# Altium integrated library TI_Logic_Specialty_Logic.IntLib: 2504 symbols (part 61 of 81)
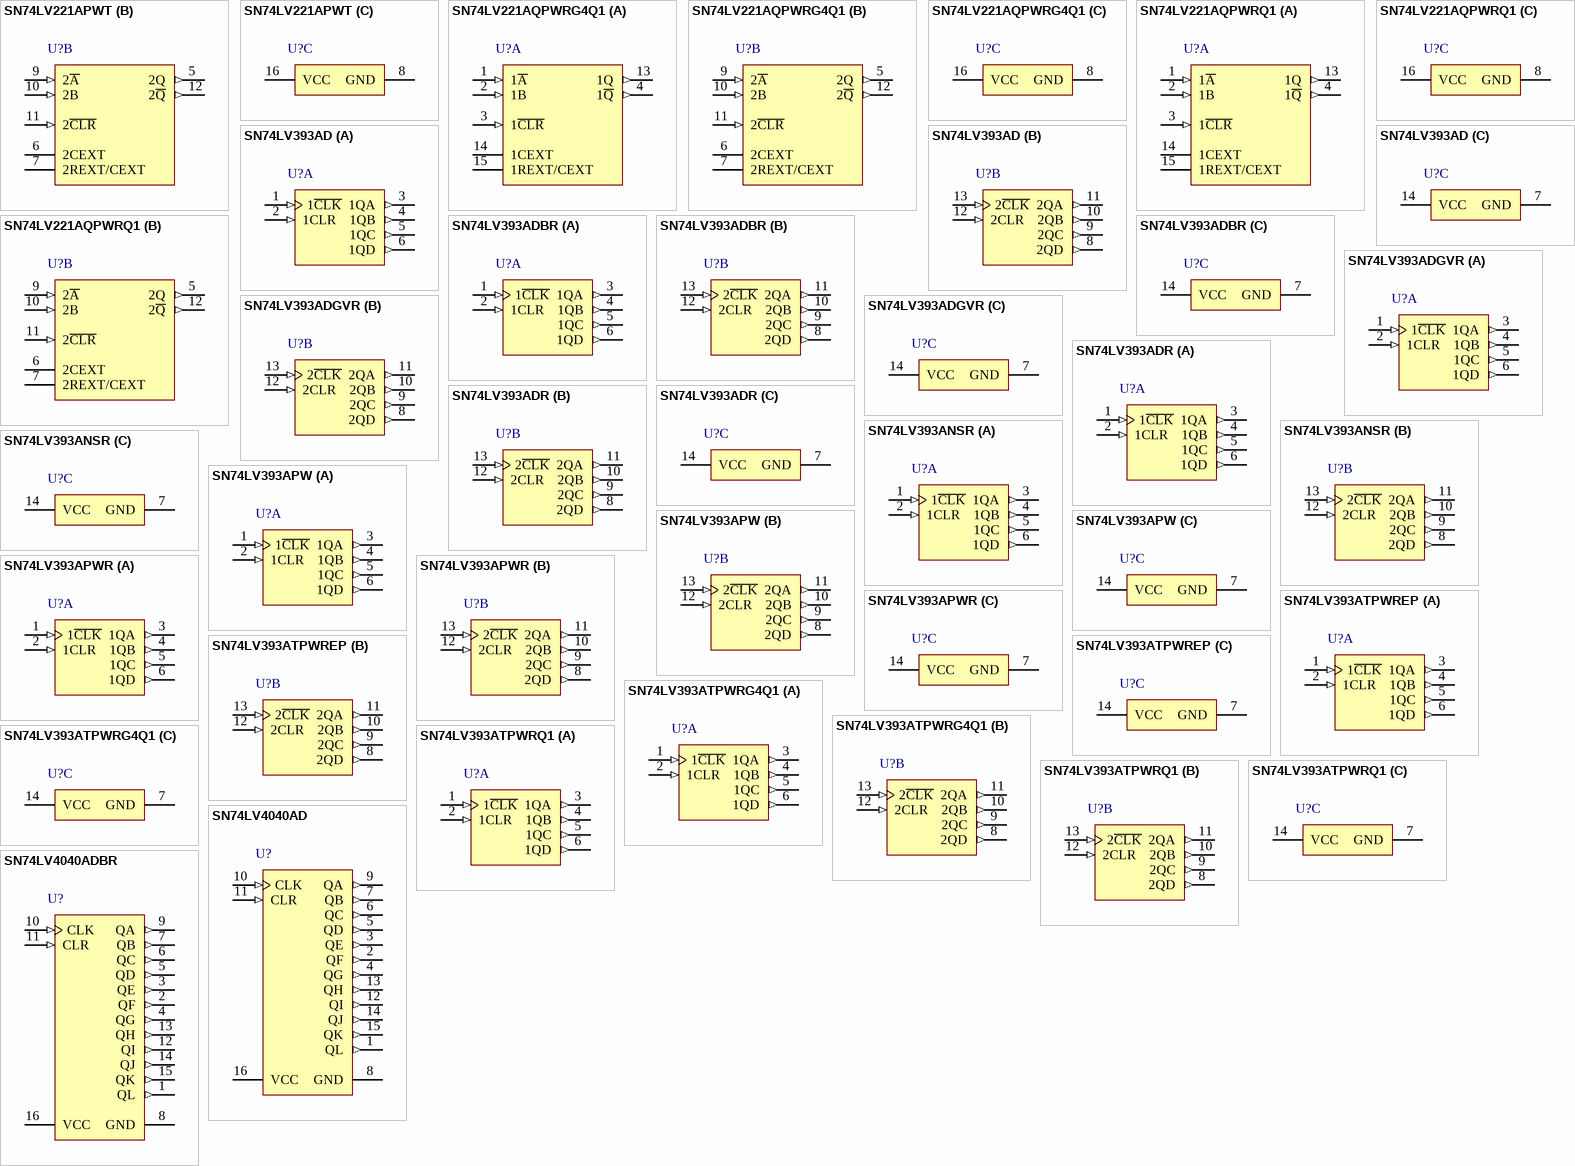
[diagram p164: symbols SN74LV221APWT to SN74LV4040ADBR]

## SN74LV393ATPWREP
designator U?
Enhanced Product Dual 4-Bit Binary Counters, PW0014A, LARGE T&R; Generic Part Number: SN74LV393A-EP; Manufacturer: Texas Instruments; PartNumber: SN74LV393ATPWREP; VCC(Min)(V): 2; VCC(Max)(V): 5.5; Inputs: 1; ICC @ Nom Voltage(Max)(mA): 0.02; Bits(#): 4; F @ Nom Voltage(Max)(Mhz): 70; Rating: HiRel Enhanced Product; Technology Family: LV-A; Output Drive (IOL/IOH)(Max)(mA): 12/-12; tpd @ Nom Voltage(Max)(ns): 16.5; DatasheetVersion: SCLS566A; PackageReference: PW0014A; Supplier 1: Mouser; Supplier Part Number 1: 595-SN74LV393ATPWREP; Supplier 2: Digi-Key; Supplier Part Number 2: 296-22313-2-ND; Supplier 3: Digi-Key; Supplier Part Number 3: 296-22313-1-ND; Supplier 4: Digi-Key; Supplier Part Number 4: 296-22313-6-ND; Function: Counter; Operating Temperature Range(C): -40 to 105; Type: Binary; Code_JEDEC: MO-153; ComponentLink1Description: Manufacturer URL; ComponentLink1URL: http://www.ti.com/; ComponentLink2Description: Datasheet; ComponentLink2URL: http://www.ti.com/lit/ds/symlink/sn74lv393a-ep.pdf; ComponentLink3Description: Package Specification; ComponentLink3URL: http://www.ti.com/lit/ml/mpds360/mpds360.pdf
footprint PW0014A_N (SOP, 14-Leads, Body 5.1x4.5mm, Pitch 0.65mm, IPC Medium Density)
footprint PW0014A_M (SOP, 14-Leads, Body 5.1x4.5mm, Pitch 0.65mm, IPC Low Density)
footprint PW0014A_L (SOP, 14-Leads, Body 5.1x4.5mm, Pitch 0.65mm, IPC High Density)
part A pins: 1 1~{CLK} (in), 2 1CLR (in), 3 1QA (out), 4 1QB (out), 5 1QC (out), 6 1QD (out)
part B pins: 8 2QD (out), 9 2QC (out), 10 2QB (out), 11 2QA (out), 12 2CLR (in), 13 2~{CLK} (in)
part C pins: 7 GND (power), 14 VCC (power)

## SN74LV393ATPWRG4Q1
designator U?
Automotive Catalog Dual 4-Bit Binary Counters, PW0014A, LARGE T&R; Generic Part Number: SN74LV393A-Q1; Manufacturer: Texas Instruments; PartNumber: SN74LV393ATPWRG4Q1; VCC(Min)(V): 2; VCC(Max)(V): 5.5; Output Type: CMOS; Inputs: 1; ICC @ Nom Voltage(Max)(mA): 0.02; Bits(#): 4; F @ Nom Voltage(Max)(Mhz): 35,75; Technology Family: LV-A; Voltage(Nom)(V): 2.5,3.3,5; Schmitt Trigger: No; Output Drive (IOL/IOH)(Max)(mA): 12/-12; tpd @ Nom Voltage(Max)(ns): 16.5; DatasheetVersion: SCLS515C; PackageReference: PW0014A; Supplier 1: Mouser; Supplier Part Number 1: 595-74LV393ATPWRG4Q1; Supplier 2: Digi-Key; Supplier Part Number 2: 296-24752-2-ND; Supplier 3: Digi-Key; Supplier Part Number 3: 296-24752-1-ND; Supplier 4: Digi-Key; Supplier Part Number 4: 296-24752-6-ND; Function: Counter; Input Type: CMOS; Operating Temperature Range(C): -40 to 105; Type: Binary; Rating: Automotive; Code_JEDEC: MO-153; ComponentLink1Description: Manufacturer URL; ComponentLink1URL: http://www.ti.com/; ComponentLink2Description: Datasheet; ComponentLink2URL: http://www.ti.com/lit/ds/symlink/sn74lv393a-q1.pdf; ComponentLink3Description: Package Specification; ComponentLink3URL: http://www.ti.com/lit/ml/mpds360/mpds360.pdf
footprint PW0014A_N (SOP, 14-Leads, Body 5.1x4.5mm, Pitch 0.65mm, IPC Medium Density)
footprint PW0014A_M (SOP, 14-Leads, Body 5.1x4.5mm, Pitch 0.65mm, IPC Low Density)
footprint PW0014A_L (SOP, 14-Leads, Body 5.1x4.5mm, Pitch 0.65mm, IPC High Density)
part A pins: 1 1~{CLK} (in), 2 1CLR (in), 3 1QA (out), 4 1QB (out), 5 1QC (out), 6 1QD (out)
part B pins: 8 2QD (out), 9 2QC (out), 10 2QB (out), 11 2QA (out), 12 2CLR (in), 13 2~{CLK} (in)
part C pins: 7 GND (power), 14 VCC (power)

## SN74LV393ATPWRQ1
designator U?
Automotive Catalog Dual 4-Bit Binary Counters, PW0014A, LARGE T&R; Generic Part Number: SN74LV393A-Q1; Manufacturer: Texas Instruments; PartNumber: SN74LV393ATPWRQ1; VCC(Min)(V): 2; VCC(Max)(V): 5.5; Output Type: CMOS; Inputs: 1; ICC @ Nom Voltage(Max)(mA): 0.02; Bits(#): 4; F @ Nom Voltage(Max)(Mhz): 35,75; Technology Family: LV-A; Voltage(Nom)(V): 2.5,3.3,5; Schmitt Trigger: No; Output Drive (IOL/IOH)(Max)(mA): 12/-12; tpd @ Nom Voltage(Max)(ns): 16.5; DatasheetVersion: SCLS515C; PackageReference: PW0014A; Supplier 1: Mouser; Supplier Part Number 1: 595-SN74LV393ATPWRQ1; Supplier 2: Digi-Key; Supplier Part Number 2: SN74LV393ATPWRQ1-ND; Function: Counter; Input Type: CMOS; Operating Temperature Range(C): -40 to 105; Type: Binary; Rating: Automotive; Code_JEDEC: MO-153; ComponentLink1Description: Manufacturer URL; ComponentLink1URL: http://www.ti.com/; ComponentLink2Description: Datasheet; ComponentLink2URL: http://www.ti.com/lit/ds/symlink/sn74lv393a-q1.pdf; ComponentLink3Description: Package Specification; ComponentLink3URL: http://www.ti.com/lit/ml/mpds360/mpds360.pdf
footprint PW0014A_N (SOP, 14-Leads, Body 5.1x4.5mm, Pitch 0.65mm, IPC Medium Density)
footprint PW0014A_M (SOP, 14-Leads, Body 5.1x4.5mm, Pitch 0.65mm, IPC Low Density)
footprint PW0014A_L (SOP, 14-Leads, Body 5.1x4.5mm, Pitch 0.65mm, IPC High Density)
part A pins: 1 1~{CLK} (in), 2 1CLR (in), 3 1QA (out), 4 1QB (out), 5 1QC (out), 6 1QD (out)
part B pins: 8 2QD (out), 9 2QC (out), 10 2QB (out), 11 2QA (out), 12 2CLR (in), 13 2~{CLK} (in)
part C pins: 7 GND (power), 14 VCC (power)

## SN74LV4040AD
designator U?
12-Bit Asynchronous Binary Counter, D0016A, TUBE; Generic Part Number: SN74LV4040A; Manufacturer: Texas Instruments; PartNumber: SN74LV4040AD; VCC(Min)(V): 2; VCC(Max)(V): 5.5; Output Type: CMOS; Inputs: 1; ICC @ Nom Voltage(Max)(mA): 0.02; Bits(#): 12; F @ Nom Voltage(Max)(Mhz): 75,125; Rating: Catalog; Technology Family: LV-A; Voltage(Nom)(V): 2.5,3.3,5; Schmitt Trigger: No; Output Drive (IOL/IOH)(Max)(mA): 12/-12; DatasheetVersion: SCES226I; PackageReference: D0016A; Supplier 1: Mouser; Supplier Part Number 1: 595-SN74LV4040AD; Supplier 2: Digi-Key; Supplier Part Number 2: 296-26554-5-ND; Function: Counter; Input Type: CMOS; Operating Temperature Range(C): -40 to 85; Type: Binary; tpd @ Nom Voltage(Max)(ns): 12; Code_JEDEC: MS-012 variation AC; ComponentLink1Description: Manufacturer URL; ComponentLink1URL: http://www.ti.com/; ComponentLink2Description: Datasheet; ComponentLink2URL: http://www.ti.com/lit/ds/symlink/sn74lv4040a.pdf; ComponentLink3Description: Package Specification; ComponentLink3URL: http://www.ti.com/lit/ml/mpds178g/mpds178g.pdf
footprint D0016A_N (SOIC, 16-Leads, Body 10x4mm, Pitch 1.27mm, IPC Medium Density)
footprint D0016A_M (SOIC, 16-Leads, Body 10x4mm, Pitch 1.27mm, IPC Low Density)
footprint D0016A_L (SOIC, 16-Leads, Body 10x4mm, Pitch 1.27mm, IPC High Density)
pins: 1 QL (out), 2 QF (out), 3 QE (out), 4 QG (out), 5 QD (out), 6 QC (out), 7 QB (out), 8 GND (power), 9 QA (out), 10 CLK (in), 11 CLR (in), 12 QI (out), 13 QH (out), 14 QJ (out), 15 QK (out), 16 VCC (power)

## SN74LV4040ADBR
designator U?
12-Bit Asynchronous Binary Counter, DB0016A, LARGE T&R; Generic Part Number: SN74LV4040A; Manufacturer: Texas Instruments; PartNumber: SN74LV4040ADBR; VCC(Min)(V): 2; VCC(Max)(V): 5.5; Output Type: CMOS; Inputs: 1; ICC @ Nom Voltage(Max)(mA): 0.02; Bits(#): 12; F @ Nom Voltage(Max)(Mhz): 75,125; Rating: Catalog; Technology Family: LV-A; Voltage(Nom)(V): 2.5,3.3,5; Schmitt Trigger: No; Output Drive (IOL/IOH)(Max)(mA): 12/-12; DatasheetVersion: SCES226I; PackageReference: DB0016A; Supplier 1: Mouser; Supplier Part Number 1: 595-SN74LV4040ADBR; Supplier 2: Digi-Key; Supplier Part Number 2: 296-3821-2-ND; Supplier 3: Digi-Key; Supplier Part Number 3: 296-3821-1-ND; Supplier 4: Digi-Key; Supplier Part Number 4: 296-3821-6-ND; Function: Counter; Input Type: CMOS; Operating Temperature Range(C): -40 to 85; Type: Binary; tpd @ Nom Voltage(Max)(ns): 12; Code_JEDEC: MO-150; ComponentLink1Description: Manufacturer URL; ComponentLink1URL: http://www.ti.com/; ComponentLink2Description: Datasheet; ComponentLink2URL: http://www.ti.com/lit/ds/symlink/sn74lv4040a.pdf; ComponentLink3Description: Package Specification; ComponentLink3URL: http://www.ti.com/lit/ml/mpds507/mpds507.pdf
footprint DB0016A_N (SOP, 16-Leads, Body 5.6x6.5mm, Pitch 0.65mm, IPC Medium Density)
footprint DB0016A_M (SOP, 16-Leads, Body 5.6x6.5mm, Pitch 0.65mm, IPC Low Density)
footprint DB0016A_L (SOP, 16-Leads, Body 5.6x6.5mm, Pitch 0.65mm, IPC High Density)
pins: 1 QL (out), 2 QF (out), 3 QE (out), 4 QG (out), 5 QD (out), 6 QC (out), 7 QB (out), 8 GND (power), 9 QA (out), 10 CLK (in), 11 CLR (in), 12 QI (out), 13 QH (out), 14 QJ (out), 15 QK (out), 16 VCC (power)

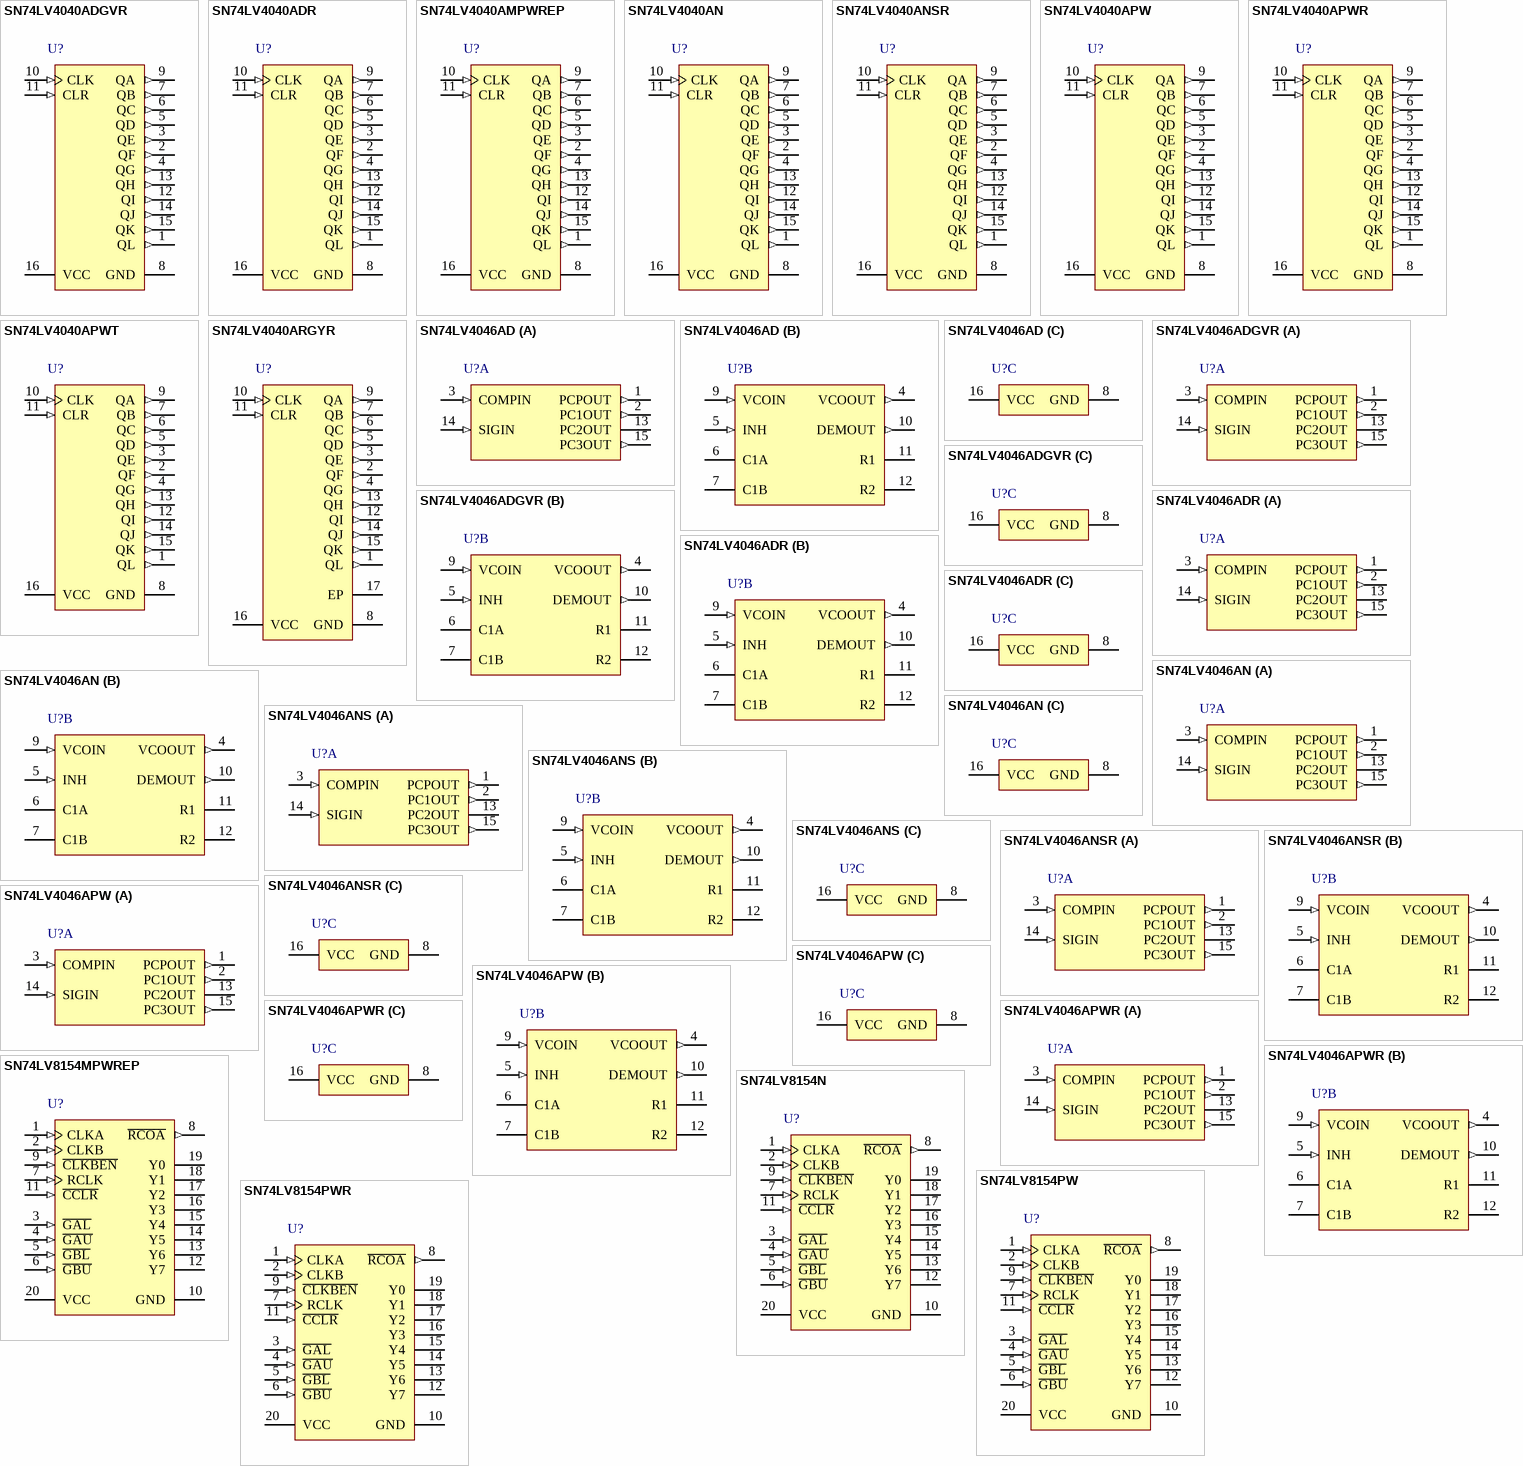
[diagram p77: symbols SN74LV4040ADGVR to SN74LV8154PWR]

## SN74LV4040ADGVR
designator U?
12-Bit Asynchronous Binary Counter, DGV0016A, LARGE T&R; Generic Part Number: SN74LV4040A; Manufacturer: Texas Instruments; PartNumber: SN74LV4040ADGVR; VCC(Min)(V): 2; VCC(Max)(V): 5.5; Output Type: CMOS; Inputs: 1; ICC @ Nom Voltage(Max)(mA): 0.02; Bits(#): 12; F @ Nom Voltage(Max)(Mhz): 75,125; Rating: Catalog; Technology Family: LV-A; Voltage(Nom)(V): 2.5,3.3,5; Schmitt Trigger: No; Output Drive (IOL/IOH)(Max)(mA): 12/-12; DatasheetVersion: SCES226I; PackageReference: DGV0016A; Supplier 1: Mouser; Supplier Part Number 1: 595-SN74LV4040ADGVR; Supplier 2: Digi-Key; Supplier Part Number 2: 296-3822-2-ND; Supplier 3: Digi-Key; Supplier Part Number 3: 296-3822-1-ND; Supplier 4: Digi-Key; Supplier Part Number 4: 296-3822-6-ND; Function: Counter; Input Type: CMOS; Operating Temperature Range(C): -40 to 85; Type: Binary; tpd @ Nom Voltage(Max)(ns): 12; Code_JEDEC: MO-194; ComponentLink1Description: Manufacturer URL; ComponentLink1URL: http://www.ti.com/; ComponentLink2Description: Datasheet; ComponentLink2URL: http://www.ti.com/lit/ds/symlink/sn74lv4040a.pdf; ComponentLink3Description: Package Specification; ComponentLink3URL: http://www.ti.com/lit/ml/mpds006c/mpds006c.pdf
footprint DGV0016A_N (SOP, 16-Leads, Body 4.5x3.7mm, Pitch 0.4mm, IPC Medium Density)
footprint DGV0016A_M (SOP, 16-Leads, Body 4.5x3.7mm, Pitch 0.4mm, IPC Low Density)
footprint DGV0016A_L (SOP, 16-Leads, Body 4.5x3.7mm, Pitch 0.4mm, IPC High Density)
pins: 1 QL (out), 2 QF (out), 3 QE (out), 4 QG (out), 5 QD (out), 6 QC (out), 7 QB (out), 8 GND (power), 9 QA (out), 10 CLK (in), 11 CLR (in), 12 QI (out), 13 QH (out), 14 QJ (out), 15 QK (out), 16 VCC (power)

## SN74LV4040ADR
designator U?
12-Bit Asynchronous Binary Counter, D0016A, LARGE T&R; Generic Part Number: SN74LV4040A; Manufacturer: Texas Instruments; PartNumber: SN74LV4040ADR; VCC(Min)(V): 2; VCC(Max)(V): 5.5; Output Type: CMOS; Inputs: 1; ICC @ Nom Voltage(Max)(mA): 0.02; Bits(#): 12; F @ Nom Voltage(Max)(Mhz): 75,125; Rating: Catalog; Technology Family: LV-A; Voltage(Nom)(V): 2.5,3.3,5; Schmitt Trigger: No; Output Drive (IOL/IOH)(Max)(mA): 12/-12; DatasheetVersion: SCES226I; PackageReference: D0016A; Supplier 1: Mouser; Supplier Part Number 1: 595-SN74LV4040ADR; Supplier 2: Digi-Key; Supplier Part Number 2: 296-23267-2-ND; Supplier 3: Digi-Key; Supplier Part Number 3: 296-23267-1-ND; Supplier 4: Digi-Key; Supplier Part Number 4: 296-23267-6-ND; Function: Counter; Input Type: CMOS; Operating Temperature Range(C): -40 to 85; Type: Binary; tpd @ Nom Voltage(Max)(ns): 12; Code_JEDEC: MS-012 variation AC; ComponentLink1Description: Manufacturer URL; ComponentLink1URL: http://www.ti.com/; ComponentLink2Description: Datasheet; ComponentLink2URL: http://www.ti.com/lit/ds/symlink/sn74lv4040a.pdf; ComponentLink3Description: Package Specification; ComponentLink3URL: http://www.ti.com/lit/ml/mpds178g/mpds178g.pdf
footprint D0016A_N (SOIC, 16-Leads, Body 10x4mm, Pitch 1.27mm, IPC Medium Density)
footprint D0016A_M (SOIC, 16-Leads, Body 10x4mm, Pitch 1.27mm, IPC Low Density)
footprint D0016A_L (SOIC, 16-Leads, Body 10x4mm, Pitch 1.27mm, IPC High Density)
pins: 1 QL (out), 2 QF (out), 3 QE (out), 4 QG (out), 5 QD (out), 6 QC (out), 7 QB (out), 8 GND (power), 9 QA (out), 10 CLK (in), 11 CLR (in), 12 QI (out), 13 QH (out), 14 QJ (out), 15 QK (out), 16 VCC (power)

## SN74LV4040AMPWREP
designator U?
Enhanced Product 12-Bit Asynchronous Binary Counter, PW0016A, LARGE T&R; Generic Part Number: SN74LV4040A-EP; Manufacturer: Texas Instruments; PartNumber: SN74LV4040AMPWREP; VCC(Min)(V): 2; VCC(Max)(V): 5.5; Inputs: 1; ICC @ Nom Voltage(Max)(mA): 0.02; Bits(#): 12; F @ Nom Voltage(Max)(Mhz): 70; Rating: Military; Technology Family: LV-A; Output Drive (IOL/IOH)(Max)(mA): 12/-12; DatasheetVersion: SGDS030; PackageReference: PW0016A; Supplier 1: Mouser; Supplier Part Number 1: 595-N74LV4040AMPWREP; Supplier 2: Digi-Key; Supplier Part Number 2: 296-23470-2-ND; Supplier 3: Digi-Key; Supplier Part Number 3: 296-23470-1-ND; Supplier 4: Digi-Key; Supplier Part Number 4: 296-23470-6-ND; Function: Counter; Operating Temperature Range(C): -55 to 125; Type: Binary; tpd @ Nom Voltage(Max)(ns): 12; Code_JEDEC: MO-153; ComponentLink1Description: Manufacturer URL; ComponentLink1URL: http://www.ti.com/; ComponentLink2Description: Datasheet; ComponentLink2URL: http://www.ti.com/lit/ds/symlink/sn74lv4040a-ep.pdf; ComponentLink3Description: Package Specification; ComponentLink3URL: http://www.ti.com/lit/ml/mpds361/mpds361.pdf
footprint PW0016A_N (SOP, 16-Leads, Body 5.1x4.5mm, Pitch 0.65mm, IPC Medium Density)
footprint PW0016A_M (SOP, 16-Leads, Body 5.1x4.5mm, Pitch 0.65mm, IPC Low Density)
footprint PW0016A_L (SOP, 16-Leads, Body 5.1x4.5mm, Pitch 0.65mm, IPC High Density)
pins: 1 QL (out), 2 QF (out), 3 QE (out), 4 QG (out), 5 QD (out), 6 QC (out), 7 QB (out), 8 GND (power), 9 QA (out), 10 CLK (in), 11 CLR (in), 12 QI (out), 13 QH (out), 14 QJ (out), 15 QK (out), 16 VCC (power)

## SN74LV4040AN
designator U?
12-Bit Asynchronous Binary Counter, N0016A, TUBE; Generic Part Number: SN74LV4040A; Manufacturer: Texas Instruments; PartNumber: SN74LV4040AN; VCC(Min)(V): 2; VCC(Max)(V): 5.5; Output Type: CMOS; Inputs: 1; ICC @ Nom Voltage(Max)(mA): 0.02; Bits(#): 12; F @ Nom Voltage(Max)(Mhz): 75,125; Rating: Catalog; Technology Family: LV-A; Voltage(Nom)(V): 2.5,3.3,5; Schmitt Trigger: No; Output Drive (IOL/IOH)(Max)(mA): 12/-12; DatasheetVersion: SCES226I; PackageReference: N0016A; Supplier 1: Mouser; Supplier Part Number 1: 595-SN74LV4040AN; Supplier 2: Digi-Key; Supplier Part Number 2: 296-34056-5-ND; Function: Counter; Input Type: CMOS; Operating Temperature Range(C): -40 to 85; Type: Binary; tpd @ Nom Voltage(Max)(ns): 12; Code_JEDEC: MS-001; ComponentLink1Description: Manufacturer URL; ComponentLink1URL: http://www.ti.com/; ComponentLink2Description: Datasheet; ComponentLink2URL: http://www.ti.com/lit/ds/symlink/sn74lv4040a.pdf; ComponentLink3Description: Package Specification; ComponentLink3URL: http://www.ti.com/lit/ml/mpdi002c/mpdi002c.pdf
footprint N0016A (DIP, 16-Leads, Body 19.7x6.6mm, Pitch 2.54mm)
pins: 1 QL (out), 2 QF (out), 3 QE (out), 4 QG (out), 5 QD (out), 6 QC (out), 7 QB (out), 8 GND (power), 9 QA (out), 10 CLK (in), 11 CLR (in), 12 QI (out), 13 QH (out), 14 QJ (out), 15 QK (out), 16 VCC (power)

## SN74LV4040ANSR
designator U?
12-Bit Asynchronous Binary Counter, NS0016A, LARGE T&R; Generic Part Number: SN74LV4040A; Manufacturer: Texas Instruments; PartNumber: SN74LV4040ANSR; VCC(Min)(V): 2; VCC(Max)(V): 5.5; Output Type: CMOS; Inputs: 1; ICC @ Nom Voltage(Max)(mA): 0.02; Bits(#): 12; F @ Nom Voltage(Max)(Mhz): 75,125; Rating: Catalog; Technology Family: LV-A; Voltage(Nom)(V): 2.5,3.3,5; Schmitt Trigger: No; Output Drive (IOL/IOH)(Max)(mA): 12/-12; DatasheetVersion: SCES226I; PackageReference: NS0016A; Supplier 1: Mouser; Supplier Part Number 1: 595-SN74LV4040ANSR; Supplier 2: Digi-Key; Supplier Part Number 2: 296-28725-2-ND; Supplier 3: Digi-Key; Supplier Part Number 3: 296-28725-1-ND; Supplier 4: Digi-Key; Supplier Part Number 4: 296-28725-6-ND; Function: Counter; Input Type: CMOS; Operating Temperature Range(C): -40 to 85; Type: Binary; tpd @ Nom Voltage(Max)(ns): 12; ComponentLink1Description: Manufacturer URL; ComponentLink1URL: http://www.ti.com/; ComponentLink2Description: Datasheet; ComponentLink2URL: http://www.ti.com/lit/ds/symlink/sn74lv4040a.pdf; ComponentLink3Description: Package Specification; ComponentLink3URL: http://www.ti.com/lit/ml/msop002a/msop002a.pdf
footprint NS0016A_N (SOIC,16-Leads,Body 10.5x5.6mm,Pitch 1.27mm,IPC Medium Density)
footprint NS0016A_M (SOIC,16-Leads,Body 10.5x5.6mm,Pitch 1.27mm,IPC Low Density)
footprint NS0016A_L (SOIC,16-Leads,Body 10.5x5.6mm,Pitch 1.27mm,IPC High Density)
pins: 1 QL (out), 2 QF (out), 3 QE (out), 4 QG (out), 5 QD (out), 6 QC (out), 7 QB (out), 8 GND (power), 9 QA (out), 10 CLK (in), 11 CLR (in), 12 QI (out), 13 QH (out), 14 QJ (out), 15 QK (out), 16 VCC (power)

## SN74LV4040APW
designator U?
12-Bit Asynchronous Binary Counter, PW0016A, TUBE; Generic Part Number: SN74LV4040A; Manufacturer: Texas Instruments; PartNumber: SN74LV4040APW; VCC(Min)(V): 2; VCC(Max)(V): 5.5; Output Type: CMOS; Inputs: 1; ICC @ Nom Voltage(Max)(mA): 0.02; Bits(#): 12; F @ Nom Voltage(Max)(Mhz): 75,125; Rating: Catalog; Technology Family: LV-A; Voltage(Nom)(V): 2.5,3.3,5; Schmitt Trigger: No; Output Drive (IOL/IOH)(Max)(mA): 12/-12; DatasheetVersion: SCES226I; PackageReference: PW0016A; Supplier 1: Mouser; Supplier Part Number 1: 595-SN74LV4040APW; Supplier 2: Digi-Key; Supplier Part Number 2: SN74LV4040APW-ND; Function: Counter; Input Type: CMOS; Operating Temperature Range(C): -40 to 85; Type: Binary; tpd @ Nom Voltage(Max)(ns): 12; Code_JEDEC: MO-153; ComponentLink1Description: Manufacturer URL; ComponentLink1URL: http://www.ti.com/; ComponentLink2Description: Datasheet; ComponentLink2URL: http://www.ti.com/lit/ds/symlink/sn74lv4040a.pdf; ComponentLink3Description: Package Specification; ComponentLink3URL: http://www.ti.com/lit/ml/mpds361/mpds361.pdf
footprint PW0016A_N (SOP, 16-Leads, Body 5.1x4.5mm, Pitch 0.65mm, IPC Medium Density)
footprint PW0016A_M (SOP, 16-Leads, Body 5.1x4.5mm, Pitch 0.65mm, IPC Low Density)
footprint PW0016A_L (SOP, 16-Leads, Body 5.1x4.5mm, Pitch 0.65mm, IPC High Density)
pins: 1 QL (out), 2 QF (out), 3 QE (out), 4 QG (out), 5 QD (out), 6 QC (out), 7 QB (out), 8 GND (power), 9 QA (out), 10 CLK (in), 11 CLR (in), 12 QI (out), 13 QH (out), 14 QJ (out), 15 QK (out), 16 VCC (power)

## SN74LV4040APWR
designator U?
12-Bit Asynchronous Binary Counter, PW0016A, LARGE T&R; Generic Part Number: SN74LV4040A; Manufacturer: Texas Instruments; PartNumber: SN74LV4040APWR; VCC(Min)(V): 2; VCC(Max)(V): 5.5; Output Type: CMOS; Inputs: 1; ICC @ Nom Voltage(Max)(mA): 0.02; Bits(#): 12; F @ Nom Voltage(Max)(Mhz): 75,125; Rating: Catalog; Technology Family: LV-A; Voltage(Nom)(V): 2.5,3.3,5; Schmitt Trigger: No; Output Drive (IOL/IOH)(Max)(mA): 12/-12; DatasheetVersion: SCES226I; PackageReference: PW0016A; Supplier 1: Mouser; Supplier Part Number 1: 595-SN74LV4040APWR; Supplier 2: Digi-Key; Supplier Part Number 2: 296-3824-2-ND; Supplier 3: Digi-Key; Supplier Part Number 3: 296-3824-1-ND; Supplier 4: Digi-Key; Supplier Part Number 4: 296-3824-6-ND; Function: Counter; Input Type: CMOS; Operating Temperature Range(C): -40 to 85; Type: Binary; tpd @ Nom Voltage(Max)(ns): 12; Code_JEDEC: MO-153; ComponentLink1Description: Manufacturer URL; ComponentLink1URL: http://www.ti.com/; ComponentLink2Description: Datasheet; ComponentLink2URL: http://www.ti.com/lit/ds/symlink/sn74lv4040a.pdf; ComponentLink3Description: Package Specification; ComponentLink3URL: http://www.ti.com/lit/ml/mpds361/mpds361.pdf
footprint PW0016A_N (SOP, 16-Leads, Body 5.1x4.5mm, Pitch 0.65mm, IPC Medium Density)
footprint PW0016A_M (SOP, 16-Leads, Body 5.1x4.5mm, Pitch 0.65mm, IPC Low Density)
footprint PW0016A_L (SOP, 16-Leads, Body 5.1x4.5mm, Pitch 0.65mm, IPC High Density)
pins: 1 QL (out), 2 QF (out), 3 QE (out), 4 QG (out), 5 QD (out), 6 QC (out), 7 QB (out), 8 GND (power), 9 QA (out), 10 CLK (in), 11 CLR (in), 12 QI (out), 13 QH (out), 14 QJ (out), 15 QK (out), 16 VCC (power)

## SN74LV4040APWT
designator U?
12-Bit Asynchronous Binary Counter, PW0016A, SMALL T&R; Generic Part Number: SN74LV4040A; Manufacturer: Texas Instruments; PartNumber: SN74LV4040APWT; VCC(Min)(V): 2; VCC(Max)(V): 5.5; Output Type: CMOS; Inputs: 1; ICC @ Nom Voltage(Max)(mA): 0.02; Bits(#): 12; F @ Nom Voltage(Max)(Mhz): 75,125; Rating: Catalog; Technology Family: LV-A; Voltage(Nom)(V): 2.5,3.3,5; Schmitt Trigger: No; Output Drive (IOL/IOH)(Max)(mA): 12/-12; DatasheetVersion: SCES226I; PackageReference: PW0016A; Supplier 1: Mouser; Supplier Part Number 1: 595-SN74LV4040APWT; Supplier 2: Digi-Key; Supplier Part Number 2: 296-28668-2-ND; Supplier 3: Digi-Key; Supplier Part Number 3: 296-28668-1-ND; Supplier 4: Digi-Key; Supplier Part Number 4: 296-28668-6-ND; Function: Counter; Input Type: CMOS; Operating Temperature Range(C): -40 to 85; Type: Binary; tpd @ Nom Voltage(Max)(ns): 12; Code_JEDEC: MO-153; ComponentLink1Description: Manufacturer URL; ComponentLink1URL: http://www.ti.com/; ComponentLink2Description: Datasheet; ComponentLink2URL: http://www.ti.com/lit/ds/symlink/sn74lv4040a.pdf; ComponentLink3Description: Package Specification; ComponentLink3URL: http://www.ti.com/lit/ml/mpds361/mpds361.pdf
footprint PW0016A_N (SOP, 16-Leads, Body 5.1x4.5mm, Pitch 0.65mm, IPC Medium Density)
footprint PW0016A_M (SOP, 16-Leads, Body 5.1x4.5mm, Pitch 0.65mm, IPC Low Density)
footprint PW0016A_L (SOP, 16-Leads, Body 5.1x4.5mm, Pitch 0.65mm, IPC High Density)
pins: 1 QL (out), 2 QF (out), 3 QE (out), 4 QG (out), 5 QD (out), 6 QC (out), 7 QB (out), 8 GND (power), 9 QA (out), 10 CLK (in), 11 CLR (in), 12 QI (out), 13 QH (out), 14 QJ (out), 15 QK (out), 16 VCC (power)

## SN74LV4040ARGYR
designator U?
12-Bit Asynchronous Binary Counter, RGY0016A, LARGE T&R; Generic Part Number: SN74LV4040A; Manufacturer: Texas Instruments; PartNumber: SN74LV4040ARGYR; VCC(Min)(V): 2; VCC(Max)(V): 5.5; Output Type: CMOS; Inputs: 1; ICC @ Nom Voltage(Max)(mA): 0.02; Bits(#): 12; F @ Nom Voltage(Max)(Mhz): 75,125; Rating: Catalog; Technology Family: LV-A; Voltage(Nom)(V): 2.5,3.3,5; Schmitt Trigger: No; Output Drive (IOL/IOH)(Max)(mA): 12/-12; DatasheetVersion: SCES226I; PackageReference: RGY0016A; Supplier 1: Mouser; Supplier Part Number 1: 595-SN74LV4040ARGYR; Supplier 2: Digi-Key; Supplier Part Number 2: 296-13944-2-ND; Supplier 3: Digi-Key; Supplier Part Number 3: 296-13944-1-ND; Supplier 4: Digi-Key; Supplier Part Number 4: 296-13944-6-ND; Function: Counter; Input Type: CMOS; Operating Temperature Range(C): -40 to 85; Type: Binary; tpd @ Nom Voltage(Max)(ns): 12; Code_JEDEC: MO-241; ComponentLink1Description: Manufacturer URL; ComponentLink1URL: http://www.ti.com/; ComponentLink2Description: Datasheet; ComponentLink2URL: http://www.ti.com/lit/ds/symlink/sn74lv4040a.pdf; ComponentLink3Description: Package Specification; ComponentLink3URL: http://www.ti.com/lit/ml/mpqf115g/mpqf115g.pdf
footprint RGY0016A_V (QFN, 16-Leads, Body 4x3.5mm, Thermal Pad 2.55x2.05mm, TI Recommend)
pins: 1 QL (out), 2 QF (out), 3 QE (out), 4 QG (out), 5 QD (out), 6 QC (out), 7 QB (out), 8 GND (power), 9 QA (out), 10 CLK (in), 11 CLR (in), 12 QI (out), 13 QH (out), 14 QJ (out), 15 QK (out), 16 VCC (power), 17 EP

## SN74LV4046AD
designator U?
High-Speed CMOS Logic Phase-Locked Loop with VCO, D0016A, TUBE; Generic Part Number: SN74LV4046A; Manufacturer: Texas Instruments; PartNumber: SN74LV4046AD; VCC(Min)(V): 3; VCC(Max)(V): 5.5; ICC @ Nom Voltage(Max)(mA): 0.05; Bits(#): 1; F @ Nom Voltage(Max)(Mhz): 70; Rating: Catalog; Technology Family: LV-A; Voltage(Nom)(V): 5; Schmitt Trigger: No; Output Drive (IOL/IOH)(Max)(mA): 12/-12; tpd @ Nom Voltage(Max)(ns): 60; DatasheetVersion: SCES656C; PackageReference: D0016A; Supplier 1: Mouser; Supplier Part Number 1: 595-SN74LV4046AD; Supplier 2: Digi-Key; Supplier Part Number 2: 296-34057-5-ND; Output Type: CMOS; Input Type: CMOS; Operating Temperature Range(C): -40 to 85; ComponentLink1Description: Manufacturer URL; ComponentLink1URL: http://www.ti.com/; ComponentLink2Description: Datasheet; ComponentLink2URL: http://www.ti.com/lit/ds/symlink/sn74lv4046a.pdf
footprint D0016A_N (SOIC, 16-Leads, Body 10x4mm, Pitch 1.27mm, IPC Medium Density)
footprint D0016A_M (SOIC, 16-Leads, Body 10x4mm, Pitch 1.27mm, IPC Low Density)
footprint D0016A_L (SOIC, 16-Leads, Body 10x4mm, Pitch 1.27mm, IPC High Density)
part A pins: 1 PCPOUT (out) "Phase comparator pulse output", 2 PC1OUT (out) "Phase comparator 1 output", 3 COMPIN (in) "Comparator input", 13 PC2OUT (hiz) "Phase comparator 2 output", 14 SIGIN (in) "Signal input", 15 PC3OUT (out) "Phase comparator 3 output"
part B pins: 4 VCOOUT (out) "VCO output", 5 INH (in) "Inhibit input", 6 C1A "Capacitor C1 connection A", 7 C1B "Capacitor C1 connection B", 9 VCOIN (in) "VCO input", 10 DEMOUT (out) "Demodulator output", 11 R1 "Resistor R1 connection", 12 R2 "Resistor R2 connection"
part C pins: 8 GND (power) "Ground (0 V)", 16 VCC (power) "Positive supply voltage"

## SN74LV4046ADGVR
designator U?
High-Speed CMOS Logic Phase-Locked Loop with VCO, DGV0016A, LARGE T&R; Generic Part Number: SN74LV4046A; Manufacturer: Texas Instruments; PartNumber: SN74LV4046ADGVR; VCC(Min)(V): 3; VCC(Max)(V): 5.5; ICC @ Nom Voltage(Max)(mA): 0.05; Bits(#): 1; F @ Nom Voltage(Max)(Mhz): 70; Rating: Catalog; Technology Family: LV-A; Voltage(Nom)(V): 5; Schmitt Trigger: No; Output Drive (IOL/IOH)(Max)(mA): 12/-12; tpd @ Nom Voltage(Max)(ns): 60; DatasheetVersion: SCES656C; PackageReference: DGV0016A; Supplier 1: Mouser; Supplier Part Number 1: 595-SN74LV4046ADGVR; Supplier 2: Digi-Key; Supplier Part Number 2: 296-21048-2-ND; Supplier 3: Digi-Key; Supplier Part Number 3: 296-21048-1-ND; Supplier 4: Digi-Key; Supplier Part Number 4: 296-21048-6-ND; Output Type: CMOS; Input Type: CMOS; Operating Temperature Range(C): -40 to 85; ComponentLink1Description: Manufacturer URL; ComponentLink1URL: http://www.ti.com/; ComponentLink2Description: Datasheet; ComponentLink2URL: http://www.ti.com/lit/ds/symlink/sn74lv4046a.pdf
footprint DGV0016A_N (SOP, 16-Leads, Body 4.5x3.7mm, Pitch 0.4mm, IPC Medium Density)
footprint DGV0016A_M (SOP, 16-Leads, Body 4.5x3.7mm, Pitch 0.4mm, IPC Low Density)
footprint DGV0016A_L (SOP, 16-Leads, Body 4.5x3.7mm, Pitch 0.4mm, IPC High Density)
part A pins: 1 PCPOUT (out) "Phase comparator pulse output", 2 PC1OUT (out) "Phase comparator 1 output", 3 COMPIN (in) "Comparator input", 13 PC2OUT (hiz) "Phase comparator 2 output", 14 SIGIN (in) "Signal input", 15 PC3OUT (out) "Phase comparator 3 output"
part B pins: 4 VCOOUT (out) "VCO output", 5 INH (in) "Inhibit input", 6 C1A "Capacitor C1 connection A", 7 C1B "Capacitor C1 connection B", 9 VCOIN (in) "VCO input", 10 DEMOUT (out) "Demodulator output", 11 R1 "Resistor R1 connection", 12 R2 "Resistor R2 connection"
part C pins: 8 GND (power) "Ground (0 V)", 16 VCC (power) "Positive supply voltage"

## SN74LV4046ADR
designator U?
High-Speed CMOS Logic Phase-Locked Loop with VCO, D0016A, LARGE T&R; Generic Part Number: SN74LV4046A; Manufacturer: Texas Instruments; PartNumber: SN74LV4046ADR; VCC(Min)(V): 3; VCC(Max)(V): 5.5; ICC @ Nom Voltage(Max)(mA): 0.05; Bits(#): 1; F @ Nom Voltage(Max)(Mhz): 70; Rating: Catalog; Technology Family: LV-A; Voltage(Nom)(V): 5; Schmitt Trigger: No; Output Drive (IOL/IOH)(Max)(mA): 12/-12; tpd @ Nom Voltage(Max)(ns): 60; DatasheetVersion: SCES656C; PackageReference: D0016A; Supplier 1: Mouser; Supplier Part Number 1: 595-SN74LV4046ADR; Supplier 2: Digi-Key; Supplier Part Number 2: 296-21049-2-ND; Supplier 3: Digi-Key; Supplier Part Number 3: 296-21049-1-ND; Supplier 4: Digi-Key; Supplier Part Number 4: 296-21049-6-ND; Output Type: CMOS; Input Type: CMOS; Operating Temperature Range(C): -40 to 85; ComponentLink1Description: Manufacturer URL; ComponentLink1URL: http://www.ti.com/; ComponentLink2Description: Datasheet; ComponentLink2URL: http://www.ti.com/lit/ds/symlink/sn74lv4046a.pdf
footprint D0016A_N (SOIC, 16-Leads, Body 10x4mm, Pitch 1.27mm, IPC Medium Density)
footprint D0016A_M (SOIC, 16-Leads, Body 10x4mm, Pitch 1.27mm, IPC Low Density)
footprint D0016A_L (SOIC, 16-Leads, Body 10x4mm, Pitch 1.27mm, IPC High Density)
part A pins: 1 PCPOUT (out) "Phase comparator pulse output", 2 PC1OUT (out) "Phase comparator 1 output", 3 COMPIN (in) "Comparator input", 13 PC2OUT (hiz) "Phase comparator 2 output", 14 SIGIN (in) "Signal input", 15 PC3OUT (out) "Phase comparator 3 output"
part B pins: 4 VCOOUT (out) "VCO output", 5 INH (in) "Inhibit input", 6 C1A "Capacitor C1 connection A", 7 C1B "Capacitor C1 connection B", 9 VCOIN (in) "VCO input", 10 DEMOUT (out) "Demodulator output", 11 R1 "Resistor R1 connection", 12 R2 "Resistor R2 connection"
part C pins: 8 GND (power) "Ground (0 V)", 16 VCC (power) "Positive supply voltage"

## SN74LV4046AN
designator U?
High-Speed CMOS Logic Phase-Locked Loop with VCO, N0016A, TUBE; Generic Part Number: SN74LV4046A; Manufacturer: Texas Instruments; PartNumber: SN74LV4046AN; VCC(Min)(V): 3; VCC(Max)(V): 5.5; ICC @ Nom Voltage(Max)(mA): 0.05; Bits(#): 1; F @ Nom Voltage(Max)(Mhz): 70; Rating: Catalog; Technology Family: LV-A; Voltage(Nom)(V): 5; Schmitt Trigger: No; Output Drive (IOL/IOH)(Max)(mA): 12/-12; tpd @ Nom Voltage(Max)(ns): 60; DatasheetVersion: SCES656C; PackageReference: N0016A; Supplier 1: Mouser; Supplier Part Number 1: 595-SN74LV4046AN; Supplier 2: Digi-Key; Supplier Part Number 2: 296-21340-5-ND; Output Type: CMOS; Input Type: CMOS; Operating Temperature Range(C): -40 to 85; ComponentLink1Description: Manufacturer URL; ComponentLink1URL: http://www.ti.com/; ComponentLink2Description: Datasheet; ComponentLink2URL: http://www.ti.com/lit/ds/symlink/sn74lv4046a.pdf
footprint N0016A (DIP, 16-Leads, Body 19.7x6.6mm, Pitch 2.54mm)
part A pins: 1 PCPOUT (out) "Phase comparator pulse output", 2 PC1OUT (out) "Phase comparator 1 output", 3 COMPIN (in) "Comparator input", 13 PC2OUT (hiz) "Phase comparator 2 output", 14 SIGIN (in) "Signal input", 15 PC3OUT (out) "Phase comparator 3 output"
part B pins: 4 VCOOUT (out) "VCO output", 5 INH (in) "Inhibit input", 6 C1A "Capacitor C1 connection A", 7 C1B "Capacitor C1 connection B", 9 VCOIN (in) "VCO input", 10 DEMOUT (out) "Demodulator output", 11 R1 "Resistor R1 connection", 12 R2 "Resistor R2 connection"
part C pins: 8 GND (power) "Ground (0 V)", 16 VCC (power) "Positive supply voltage"

## SN74LV4046ANS
designator U?
High-Speed CMOS Logic Phase-Locked Loop with VCO, NS0016A, TUBE; Generic Part Number: SN74LV4046A; Manufacturer: Texas Instruments; PartNumber: SN74LV4046ANS; VCC(Min)(V): 3; VCC(Max)(V): 5.5; ICC @ Nom Voltage(Max)(mA): 0.05; Bits(#): 1; F @ Nom Voltage(Max)(Mhz): 70; Rating: Catalog; Technology Family: LV-A; Voltage(Nom)(V): 5; Schmitt Trigger: No; Output Drive (IOL/IOH)(Max)(mA): 12/-12; tpd @ Nom Voltage(Max)(ns): 60; DatasheetVersion: SCES656C; PackageReference: NS0016A; Supplier 1: Mouser; Supplier Part Number 1: 595-SN74LV4046ANS; Supplier 2: Digi-Key; Supplier Part Number 2: SN74LV4046ANS-ND; Output Type: CMOS; Input Type: CMOS; Operating Temperature Range(C): -40 to 85; ComponentLink1Description: Manufacturer URL; ComponentLink1URL: http://www.ti.com/; ComponentLink2Description: Datasheet; ComponentLink2URL: http://www.ti.com/lit/ds/symlink/sn74lv4046a.pdf
footprint NS0016A_N (SOIC,16-Leads,Body 10.5x5.6mm,Pitch 1.27mm,IPC Medium Density)
footprint NS0016A_M (SOIC,16-Leads,Body 10.5x5.6mm,Pitch 1.27mm,IPC Low Density)
footprint NS0016A_L (SOIC,16-Leads,Body 10.5x5.6mm,Pitch 1.27mm,IPC High Density)
part A pins: 1 PCPOUT (out) "Phase comparator pulse output", 2 PC1OUT (out) "Phase comparator 1 output", 3 COMPIN (in) "Comparator input", 13 PC2OUT (hiz) "Phase comparator 2 output", 14 SIGIN (in) "Signal input", 15 PC3OUT (out) "Phase comparator 3 output"
part B pins: 4 VCOOUT (out) "VCO output", 5 INH (in) "Inhibit input", 6 C1A "Capacitor C1 connection A", 7 C1B "Capacitor C1 connection B", 9 VCOIN (in) "VCO input", 10 DEMOUT (out) "Demodulator output", 11 R1 "Resistor R1 connection", 12 R2 "Resistor R2 connection"
part C pins: 8 GND (power) "Ground (0 V)", 16 VCC (power) "Positive supply voltage"

## SN74LV4046ANSR
designator U?
High-Speed CMOS Logic Phase-Locked Loop with VCO, NS0016A, LARGE T&R; Generic Part Number: SN74LV4046A; Manufacturer: Texas Instruments; PartNumber: SN74LV4046ANSR; VCC(Min)(V): 3; VCC(Max)(V): 5.5; ICC @ Nom Voltage(Max)(mA): 0.05; Bits(#): 1; F @ Nom Voltage(Max)(Mhz): 70; Rating: Catalog; Technology Family: LV-A; Voltage(Nom)(V): 5; Schmitt Trigger: No; Output Drive (IOL/IOH)(Max)(mA): 12/-12; tpd @ Nom Voltage(Max)(ns): 60; DatasheetVersion: SCES656C; PackageReference: NS0016A; Supplier 1: Mouser; Supplier Part Number 1: 595-SN74LV4046ANSR; Supplier 2: Digi-Key; Supplier Part Number 2: 296-21050-2-ND; Supplier 3: Digi-Key; Supplier Part Number 3: 296-21050-1-ND; Supplier 4: Digi-Key; Supplier Part Number 4: 296-21050-6-ND; Output Type: CMOS; Input Type: CMOS; Operating Temperature Range(C): -40 to 85; ComponentLink1Description: Manufacturer URL; ComponentLink1URL: http://www.ti.com/; ComponentLink2Description: Datasheet; ComponentLink2URL: http://www.ti.com/lit/ds/symlink/sn74lv4046a.pdf
footprint NS0016A_N (SOIC,16-Leads,Body 10.5x5.6mm,Pitch 1.27mm,IPC Medium Density)
footprint NS0016A_M (SOIC,16-Leads,Body 10.5x5.6mm,Pitch 1.27mm,IPC Low Density)
footprint NS0016A_L (SOIC,16-Leads,Body 10.5x5.6mm,Pitch 1.27mm,IPC High Density)
part A pins: 1 PCPOUT (out) "Phase comparator pulse output", 2 PC1OUT (out) "Phase comparator 1 output", 3 COMPIN (in) "Comparator input", 13 PC2OUT (hiz) "Phase comparator 2 output", 14 SIGIN (in) "Signal input", 15 PC3OUT (out) "Phase comparator 3 output"
part B pins: 4 VCOOUT (out) "VCO output", 5 INH (in) "Inhibit input", 6 C1A "Capacitor C1 connection A", 7 C1B "Capacitor C1 connection B", 9 VCOIN (in) "VCO input", 10 DEMOUT (out) "Demodulator output", 11 R1 "Resistor R1 connection", 12 R2 "Resistor R2 connection"
part C pins: 8 GND (power) "Ground (0 V)", 16 VCC (power) "Positive supply voltage"

## SN74LV4046APW
designator U?
High-Speed CMOS Logic Phase-Locked Loop with VCO, PW0016A, TUBE; Generic Part Number: SN74LV4046A; Manufacturer: Texas Instruments; PartNumber: SN74LV4046APW; VCC(Min)(V): 3; VCC(Max)(V): 5.5; ICC @ Nom Voltage(Max)(mA): 0.05; Bits(#): 1; F @ Nom Voltage(Max)(Mhz): 70; Rating: Catalog; Technology Family: LV-A; Voltage(Nom)(V): 5; Schmitt Trigger: No; Output Drive (IOL/IOH)(Max)(mA): 12/-12; tpd @ Nom Voltage(Max)(ns): 60; DatasheetVersion: SCES656C; PackageReference: PW0016A; Supplier 1: Mouser; Supplier Part Number 1: 595-SN74LV4046APW; Supplier 2: Digi-Key; Supplier Part Number 2: SN74LV4046APW-ND; Output Type: CMOS; Input Type: CMOS; Operating Temperature Range(C): -40 to 85; ComponentLink1Description: Manufacturer URL; ComponentLink1URL: http://www.ti.com/; ComponentLink2Description: Datasheet; ComponentLink2URL: http://www.ti.com/lit/ds/symlink/sn74lv4046a.pdf
footprint PW0016A_N (SOP, 16-Leads, Body 5.1x4.5mm, Pitch 0.65mm, IPC Medium Density)
footprint PW0016A_M (SOP, 16-Leads, Body 5.1x4.5mm, Pitch 0.65mm, IPC Low Density)
footprint PW0016A_L (SOP, 16-Leads, Body 5.1x4.5mm, Pitch 0.65mm, IPC High Density)
part A pins: 1 PCPOUT (out) "Phase comparator pulse output", 2 PC1OUT (out) "Phase comparator 1 output", 3 COMPIN (in) "Comparator input", 13 PC2OUT (hiz) "Phase comparator 2 output", 14 SIGIN (in) "Signal input", 15 PC3OUT (out) "Phase comparator 3 output"
part B pins: 4 VCOOUT (out) "VCO output", 5 INH (in) "Inhibit input", 6 C1A "Capacitor C1 connection A", 7 C1B "Capacitor C1 connection B", 9 VCOIN (in) "VCO input", 10 DEMOUT (out) "Demodulator output", 11 R1 "Resistor R1 connection", 12 R2 "Resistor R2 connection"
part C pins: 8 GND (power) "Ground (0 V)", 16 VCC (power) "Positive supply voltage"

## SN74LV4046APWR
designator U?
High-Speed CMOS Logic Phase-Locked Loop with VCO, PW0016A, LARGE T&R; Generic Part Number: SN74LV4046A; Manufacturer: Texas Instruments; PartNumber: SN74LV4046APWR; VCC(Min)(V): 3; VCC(Max)(V): 5.5; ICC @ Nom Voltage(Max)(mA): 0.05; Bits(#): 1; F @ Nom Voltage(Max)(Mhz): 70; Rating: Catalog; Technology Family: LV-A; Voltage(Nom)(V): 5; Schmitt Trigger: No; Output Drive (IOL/IOH)(Max)(mA): 12/-12; tpd @ Nom Voltage(Max)(ns): 60; DatasheetVersion: SCES656C; PackageReference: PW0016A; Supplier 1: Mouser; Supplier Part Number 1: 595-SN74LV4046APWR; Supplier 2: Digi-Key; Supplier Part Number 2: 296-21051-2-ND; Supplier 3: Digi-Key; Supplier Part Number 3: 296-21051-1-ND; Supplier 4: Digi-Key; Supplier Part Number 4: 296-21051-6-ND; Output Type: CMOS; Input Type: CMOS; Operating Temperature Range(C): -40 to 85; ComponentLink1Description: Manufacturer URL; ComponentLink1URL: http://www.ti.com/; ComponentLink2Description: Datasheet; ComponentLink2URL: http://www.ti.com/lit/ds/symlink/sn74lv4046a.pdf
footprint PW0016A_N (SOP, 16-Leads, Body 5.1x4.5mm, Pitch 0.65mm, IPC Medium Density)
footprint PW0016A_M (SOP, 16-Leads, Body 5.1x4.5mm, Pitch 0.65mm, IPC Low Density)
footprint PW0016A_L (SOP, 16-Leads, Body 5.1x4.5mm, Pitch 0.65mm, IPC High Density)
part A pins: 1 PCPOUT (out) "Phase comparator pulse output", 2 PC1OUT (out) "Phase comparator 1 output", 3 COMPIN (in) "Comparator input", 13 PC2OUT (hiz) "Phase comparator 2 output", 14 SIGIN (in) "Signal input", 15 PC3OUT (out) "Phase comparator 3 output"
part B pins: 4 VCOOUT (out) "VCO output", 5 INH (in) "Inhibit input", 6 C1A "Capacitor C1 connection A", 7 C1B "Capacitor C1 connection B", 9 VCOIN (in) "VCO input", 10 DEMOUT (out) "Demodulator output", 11 R1 "Resistor R1 connection", 12 R2 "Resistor R2 connection"
part C pins: 8 GND (power) "Ground (0 V)", 16 VCC (power) "Positive supply voltage"

## SN74LV8154MPWREP
designator U?
Enhanced Product Dual 16-Bit Binary Counter With 3-State Output Registers, PW0020A, LARGE T&R; Generic Part Number: SN74LV8154-EP; Manufacturer: Texas Instruments; PartNumber: SN74LV8154MPWREP; VCC(Min)(V): 2; VCC(Max)(V): 5.5; Inputs: 1; ICC @ Nom Voltage(Max)(mA): 0.02; Bits(#): 16; F @ Nom Voltage(Max)(Mhz): 70; Rating: HiRel Enhanced Product; Technology Family: LV-A; Output Drive (IOL/IOH)(Max)(mA): 12/-12; tpd @ Nom Voltage(Max)(ns): 27; DatasheetVersion: SCLS704A; PackageReference: PW0020A; Supplier 1: Mouser; Supplier Part Number 1: 595-SN74LV8154MPWREP; Supplier 2: Digi-Key; Supplier Part Number 2: 296-22578-2-ND; Supplier 3: Digi-Key; Supplier Part Number 3: 296-22578-1-ND; Supplier 4: Digi-Key; Supplier Part Number 4: 296-22578-6-ND; Function: Counter; Operating Temperature Range(C): -55 to 125; Type: Binary; Code_JEDEC: MO-153; ComponentLink1Description: Manufacturer URL; ComponentLink1URL: http://www.ti.com/; ComponentLink2Description: Datasheet; ComponentLink2URL: http://www.ti.com/lit/ds/symlink/sn74lv8154-ep.pdf; ComponentLink3Description: Package Specification; ComponentLink3URL: http://www.ti.com/lit/ml/mpds362/mpds362.pdf
footprint PW0020A_N (SOP, 20-Leads, Body 6.6x4.5mm, Pitch 0.65mm, IPC Medium Density)
footprint PW0020A_M (SOP, 20-Leads, Body 6.6x4.5mm, Pitch 0.65mm, IPC Low Density)
footprint PW0020A_L (SOP, 20-Leads, Body 6.6x4.5mm, Pitch 0.65mm, IPC High Density)
pins: 1 CLKA (in), 2 CLKB (in), 3 ~{GAL} (in), 4 ~{GAU} (in), 5 ~{GBL} (in), 6 ~{GBU} (in), 7 RCLK (in), 8 ~{RCOA} (out), 9 ~{CLKBEN} (in), 10 GND (power), 11 ~{CCLR} (in), 12 Y7 (hiz), 13 Y6 (hiz), 14 Y5 (hiz), 15 Y4 (hiz), 16 Y3 (hiz), 17 Y2 (hiz), 18 Y1 (hiz), 19 Y0 (hiz), 20 VCC (power)

## SN74LV8154N
designator U?
Dual 16-Bit Binary Counters with 3-State Output Registers, N0020A, TUBE; Generic Part Number: SN74LV8154; Manufacturer: Texas Instruments; PartNumber: SN74LV8154N; VCC(Min)(V): 2; VCC(Max)(V): 5.5; Output Type: CMOS; Inputs: 1; ICC @ Nom Voltage(Max)(mA): 0.02; Bits(#): 16; F @ Nom Voltage(Max)(Mhz): 40; Rating: Catalog; Technology Family: LV-A; Voltage(Nom)(V): 2.5,3.3,5; Schmitt Trigger: No; Output Drive (IOL/IOH)(Max)(mA): 12/-12; tpd @ Nom Voltage(Max)(ns): 27; DatasheetVersion: SCLS589; PackageReference: N0020A; Supplier 1: Mouser; Supplier Part Number 1: 595-SN74LV8154N; Supplier 2: Digi-Key; Supplier Part Number 2: 296-34067-5-ND; Function: Counter; Input Type: CMOS; Operating Temperature Range(C): -40 to 85; Type: Binary; Code_JEDEC: MS-001; ComponentLink1Description: Manufacturer URL; ComponentLink1URL: http://www.ti.com/; ComponentLink2Description: Datasheet; ComponentLink2URL: http://www.ti.com/lit/ds/symlink/sn74lv8154.pdf; ComponentLink3Description: Package Specification; ComponentLink3URL: http://www.ti.com/lit/ml/mpdi002c/mpdi002c.pdf
footprint N0020A (DIP, 20-Leads, Body 26.9x6.6mm, Pitch 2.54mm)
pins: 1 CLKA (in), 2 CLKB (in), 3 ~{GAL} (in), 4 ~{GAU} (in), 5 ~{GBL} (in), 6 ~{GBU} (in), 7 RCLK (in), 8 ~{RCOA} (out), 9 ~{CLKBEN} (in), 10 GND (power), 11 ~{CCLR} (in), 12 Y7 (hiz), 13 Y6 (hiz), 14 Y5 (hiz), 15 Y4 (hiz), 16 Y3 (hiz), 17 Y2 (hiz), 18 Y1 (hiz), 19 Y0 (hiz), 20 VCC (power)

## SN74LV8154PW
designator U?
Dual 16-Bit Binary Counters with 3-State Output Registers, PW0020A, TUBE; Generic Part Number: SN74LV8154; Manufacturer: Texas Instruments; PartNumber: SN74LV8154PW; VCC(Min)(V): 2; VCC(Max)(V): 5.5; Output Type: CMOS; Inputs: 1; ICC @ Nom Voltage(Max)(mA): 0.02; Bits(#): 16; F @ Nom Voltage(Max)(Mhz): 40; Rating: Catalog; Technology Family: LV-A; Voltage(Nom)(V): 2.5,3.3,5; Schmitt Trigger: No; Output Drive (IOL/IOH)(Max)(mA): 12/-12; tpd @ Nom Voltage(Max)(ns): 27; DatasheetVersion: SCLS589; PackageReference: PW0020A; Supplier 1: Mouser; Supplier Part Number 1: 595-SN74LV8154PW; Supplier 2: Digi-Key; Supplier Part Number 2: 296-34068-5-ND; Function: Counter; Input Type: CMOS; Operating Temperature Range(C): -40 to 85; Type: Binary; Code_JEDEC: MO-153; ComponentLink1Description: Manufacturer URL; ComponentLink1URL: http://www.ti.com/; ComponentLink2Description: Datasheet; ComponentLink2URL: http://www.ti.com/lit/ds/symlink/sn74lv8154.pdf; ComponentLink3Description: Package Specification; ComponentLink3URL: http://www.ti.com/lit/ml/mpds362/mpds362.pdf
footprint PW0020A_N (SOP, 20-Leads, Body 6.6x4.5mm, Pitch 0.65mm, IPC Medium Density)
footprint PW0020A_M (SOP, 20-Leads, Body 6.6x4.5mm, Pitch 0.65mm, IPC Low Density)
footprint PW0020A_L (SOP, 20-Leads, Body 6.6x4.5mm, Pitch 0.65mm, IPC High Density)
pins: 1 CLKA (in), 2 CLKB (in), 3 ~{GAL} (in), 4 ~{GAU} (in), 5 ~{GBL} (in), 6 ~{GBU} (in), 7 RCLK (in), 8 ~{RCOA} (out), 9 ~{CLKBEN} (in), 10 GND (power), 11 ~{CCLR} (in), 12 Y7 (hiz), 13 Y6 (hiz), 14 Y5 (hiz), 15 Y4 (hiz), 16 Y3 (hiz), 17 Y2 (hiz), 18 Y1 (hiz), 19 Y0 (hiz), 20 VCC (power)

## SN74LV8154PWR
designator U?
Dual 16-Bit Binary Counters with 3-State Output Registers, PW0020A, LARGE T&R; Generic Part Number: SN74LV8154; Manufacturer: Texas Instruments; PartNumber: SN74LV8154PWR; VCC(Min)(V): 2; VCC(Max)(V): 5.5; Output Type: CMOS; Inputs: 1; ICC @ Nom Voltage(Max)(mA): 0.02; Bits(#): 16; F @ Nom Voltage(Max)(Mhz): 40; Rating: Catalog; Technology Family: LV-A; Voltage(Nom)(V): 2.5,3.3,5; Schmitt Trigger: No; Output Drive (IOL/IOH)(Max)(mA): 12/-12; tpd @ Nom Voltage(Max)(ns): 27; DatasheetVersion: SCLS589; PackageReference: PW0020A; Supplier 1: Mouser; Supplier Part Number 1: 595-SN74LV8154PWR; Supplier 2: Digi-Key; Supplier Part Number 2: SN74LV8154PWR-ND; Function: Counter; Input Type: CMOS; Operating Temperature Range(C): -40 to 85; Type: Binary; Code_JEDEC: MO-153; ComponentLink1Description: Manufacturer URL; ComponentLink1URL: http://www.ti.com/; ComponentLink2Description: Datasheet; ComponentLink2URL: http://www.ti.com/lit/ds/symlink/sn74lv8154.pdf; ComponentLink3Description: Package Specification; ComponentLink3URL: http://www.ti.com/lit/ml/mpds362/mpds362.pdf
footprint PW0020A_N (SOP, 20-Leads, Body 6.6x4.5mm, Pitch 0.65mm, IPC Medium Density)
footprint PW0020A_M (SOP, 20-Leads, Body 6.6x4.5mm, Pitch 0.65mm, IPC Low Density)
footprint PW0020A_L (SOP, 20-Leads, Body 6.6x4.5mm, Pitch 0.65mm, IPC High Density)
pins: 1 CLKA (in), 2 CLKB (in), 3 ~{GAL} (in), 4 ~{GAU} (in), 5 ~{GBL} (in), 6 ~{GBU} (in), 7 RCLK (in), 8 ~{RCOA} (out), 9 ~{CLKBEN} (in), 10 GND (power), 11 ~{CCLR} (in), 12 Y7 (hiz), 13 Y6 (hiz), 14 Y5 (hiz), 15 Y4 (hiz), 16 Y3 (hiz), 17 Y2 (hiz), 18 Y1 (hiz), 19 Y0 (hiz), 20 VCC (power)

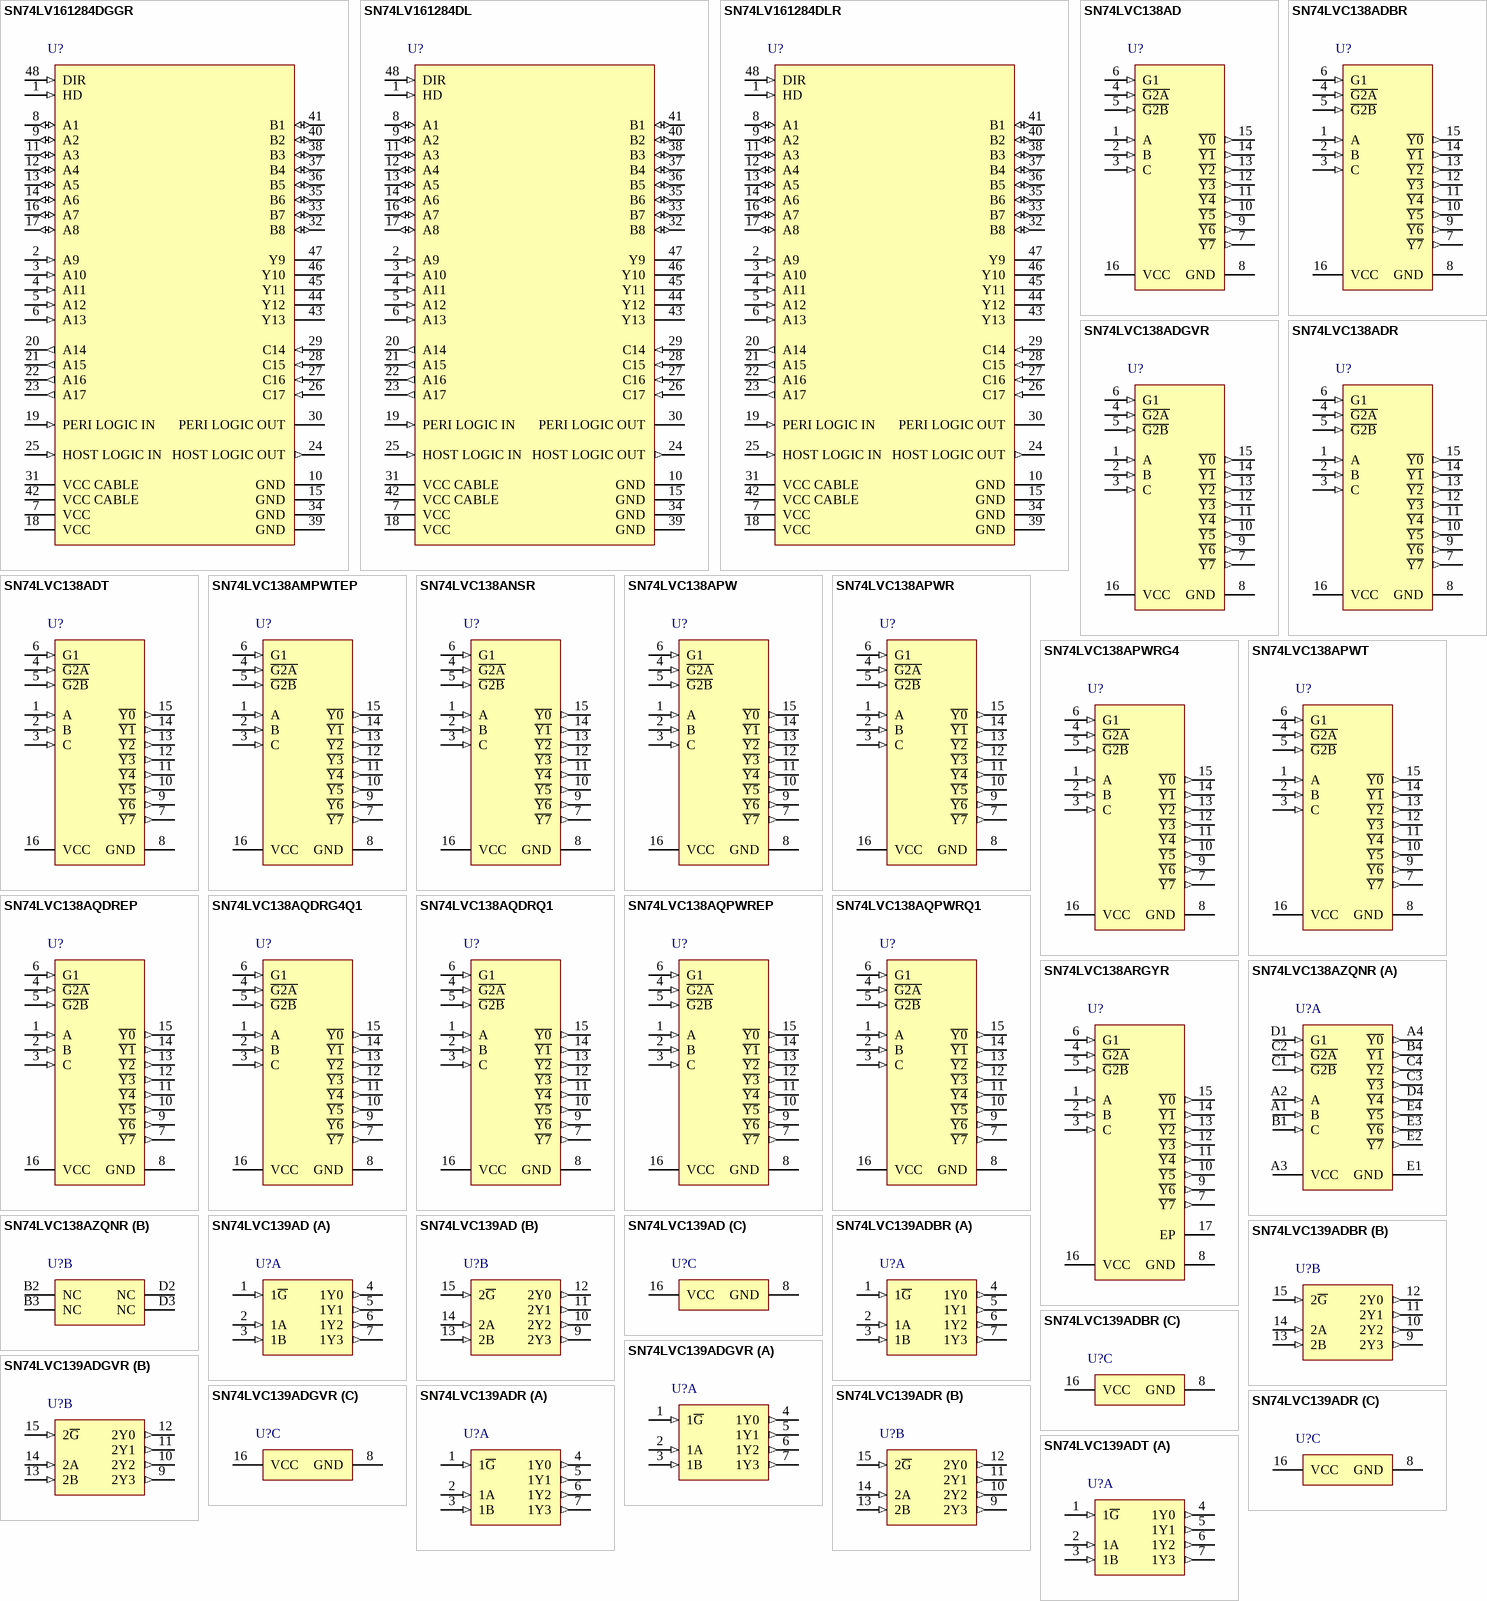
[diagram p78: symbols SN74LV161284DGGR to SN74LVC139ADT]

## SN74LV161284DGGR
designator U?
19-Bit Bus Interface, DGG0048A, LARGE T&R; Generic Part Number: SN74LV161284; Manufacturer: Texas Instruments; PartNumber: SN74LV161284DGGR; VCC(Min)(V): 4.5; VCC(Max)(V): 5.5; Output Type: CMOS; ICC @ Nom Voltage(Max)(mA): 0.8; Input Type: TTL,CMOS; Bits(#): 19; F @ Nom Voltage(Max)(Mhz): 70; Technology Family: LV-A; Voltage(Nom)(V): 3.3; Schmitt Trigger: No; Output Drive (IOL/IOH)(Max)(mA): 84/-14; tpd @ Nom Voltage(Max)(ns): 30; DatasheetVersion: SCLS426C; PackageReference: DGG0048A; Supplier 1: Mouser; Supplier Part Number 1: 595-SN74LV161284DGGR; Supplier 2: Digi-Key; Supplier Part Number 2: 296-1215-2-ND; Supplier 3: Digi-Key; Supplier Part Number 3: 296-1215-1-ND; Supplier 4: Digi-Key; Supplier Part Number 4: 296-1215-6-ND; Operating Temperature Range(C): -40 to 85; Code_JEDEC: MO-153; ComponentLink1Description: Manufacturer URL; ComponentLink1URL: http://www.ti.com/; ComponentLink2Description: Datasheet; ComponentLink2URL: http://www.ti.com/lit/ds/symlink/sn74lv161284.pdf; ComponentLink3Description: Package Specification; ComponentLink3URL: http://www.ti.com/lit/ml/mtss003d/mtss003d.pdf
footprint DGG0048A_N (TSSOP, 48-Leads, Body 12.6x6.2mm, Pitch 0.5mm, IPC Medium Density)
footprint DGG0048A_M (TSSOP, 48-Leads, Body 12.6x6.2mm, Pitch 0.5mm, IPC Low Density)
footprint DGG0048A_L (TSSOP, 48-Leads, Body 12.6x6.2mm, Pitch 0.5mm, IPC High Density)
pins: 1 HD (in), 2 A9 (in), 3 A10 (in), 4 A11 (in), 5 A12 (in), 6 A13 (in), 7 VCC (power), 8 A1 (io), 9 A2 (io), 10 GND (power), 11 A3 (io), 12 A4 (io), 13 A5 (io), 14 A6 (io), 15 GND (power), 16 A7 (io), 17 A8 (io), 18 VCC (power), 19 PERI LOGIC IN (in), 20 A14 (out), 21 A15 (out), 22 A16 (out), 23 A17 (out), 24 HOST LOGIC OUT (out), 25 HOST LOGIC IN (in), 26 C17 (in), 27 C16 (in), 28 C15 (in), 29 C14 (in), 30 PERI LOGIC OUT (oc), 31 VCC CABLE (power), 32 B8 (io), 33 B7 (io), 34 GND (power), 35 B6 (io), 36 B5 (io), 37 B4 (io), 38 B3 (io), 39 GND (power), 40 B2 (io), 41 B1 (io), 42 VCC CABLE (power), 43 Y13 (oc), 44 Y12 (oc), 45 Y11 (oc), 46 Y10 (oc), 47 Y9 (oc), 48 DIR (in)

## SN74LV161284DL
designator U?
19-Bit Bus Interface, DL0048A, TUBE; Generic Part Number: SN74LV161284; Manufacturer: Texas Instruments; PartNumber: SN74LV161284DL; VCC(Min)(V): 4.5; VCC(Max)(V): 5.5; Output Type: CMOS; ICC @ Nom Voltage(Max)(mA): 0.8; Input Type: TTL,CMOS; Bits(#): 19; F @ Nom Voltage(Max)(Mhz): 70; Technology Family: LV-A; Voltage(Nom)(V): 3.3; Schmitt Trigger: No; Output Drive (IOL/IOH)(Max)(mA): 84/-14; tpd @ Nom Voltage(Max)(ns): 30; DatasheetVersion: SCLS426C; PackageReference: DL0048A; Supplier 1: Mouser; Supplier Part Number 1: 595-SN74LV161284DL; Supplier 2: Digi-Key; Supplier Part Number 2: 296-1679-5-ND; Operating Temperature Range(C): -40 to 85; Code_JEDEC: MO-118; ComponentLink1Description: Manufacturer URL; ComponentLink1URL: http://www.ti.com/; ComponentLink2Description: Datasheet; ComponentLink2URL: http://www.ti.com/lit/ds/symlink/sn74lv161284.pdf; ComponentLink3Description: Package Specification; ComponentLink3URL: http://www.ti.com/lit/ml/mpds490/mpds490.pdf
footprint DL0048A_N (SOP, 48-Leads, Body 7.6x16mm, Pitch 0.635mm, IPC Medium Density)
footprint DL0048A_M (SOP, 48-Leads, Body 7.6x16mm, Pitch 0.635mm, IPC Low Density)
footprint DL0048A_L (SOP, 48-Leads, Body 7.6x16mm, Pitch 0.635mm, IPC High Density)
pins: 1 HD (in), 2 A9 (in), 3 A10 (in), 4 A11 (in), 5 A12 (in), 6 A13 (in), 7 VCC (power), 8 A1 (io), 9 A2 (io), 10 GND (power), 11 A3 (io), 12 A4 (io), 13 A5 (io), 14 A6 (io), 15 GND (power), 16 A7 (io), 17 A8 (io), 18 VCC (power), 19 PERI LOGIC IN (in), 20 A14 (out), 21 A15 (out), 22 A16 (out), 23 A17 (out), 24 HOST LOGIC OUT (out), 25 HOST LOGIC IN (in), 26 C17 (in), 27 C16 (in), 28 C15 (in), 29 C14 (in), 30 PERI LOGIC OUT (oc), 31 VCC CABLE (power), 32 B8 (io), 33 B7 (io), 34 GND (power), 35 B6 (io), 36 B5 (io), 37 B4 (io), 38 B3 (io), 39 GND (power), 40 B2 (io), 41 B1 (io), 42 VCC CABLE (power), 43 Y13 (oc), 44 Y12 (oc), 45 Y11 (oc), 46 Y10 (oc), 47 Y9 (oc), 48 DIR (in)

## SN74LV161284DLR
designator U?
19-Bit Bus Interface, DL0048A, LARGE T&R; Generic Part Number: SN74LV161284; Manufacturer: Texas Instruments; PartNumber: SN74LV161284DLR; VCC(Min)(V): 4.5; VCC(Max)(V): 5.5; Output Type: CMOS; ICC @ Nom Voltage(Max)(mA): 0.8; Input Type: TTL,CMOS; Bits(#): 19; F @ Nom Voltage(Max)(Mhz): 70; Technology Family: LV-A; Voltage(Nom)(V): 3.3; Schmitt Trigger: No; Output Drive (IOL/IOH)(Max)(mA): 84/-14; tpd @ Nom Voltage(Max)(ns): 30; DatasheetVersion: SCLS426C; PackageReference: DL0048A; Supplier 1: Mouser; Supplier Part Number 1: 595-SN74LV161284DLR; Supplier 2: Digi-Key; Supplier Part Number 2: 296-3786-2-ND; Supplier 3: Digi-Key; Supplier Part Number 3: 296-3786-1-ND; Supplier 4: Digi-Key; Supplier Part Number 4: 296-3786-6-ND; Operating Temperature Range(C): -40 to 85; Code_JEDEC: MO-118; ComponentLink1Description: Manufacturer URL; ComponentLink1URL: http://www.ti.com/; ComponentLink2Description: Datasheet; ComponentLink2URL: http://www.ti.com/lit/ds/symlink/sn74lv161284.pdf; ComponentLink3Description: Package Specification; ComponentLink3URL: http://www.ti.com/lit/ml/mpds490/mpds490.pdf
footprint DL0048A_N (SOP, 48-Leads, Body 7.6x16mm, Pitch 0.635mm, IPC Medium Density)
footprint DL0048A_M (SOP, 48-Leads, Body 7.6x16mm, Pitch 0.635mm, IPC Low Density)
footprint DL0048A_L (SOP, 48-Leads, Body 7.6x16mm, Pitch 0.635mm, IPC High Density)
pins: 1 HD (in), 2 A9 (in), 3 A10 (in), 4 A11 (in), 5 A12 (in), 6 A13 (in), 7 VCC (power), 8 A1 (io), 9 A2 (io), 10 GND (power), 11 A3 (io), 12 A4 (io), 13 A5 (io), 14 A6 (io), 15 GND (power), 16 A7 (io), 17 A8 (io), 18 VCC (power), 19 PERI LOGIC IN (in), 20 A14 (out), 21 A15 (out), 22 A16 (out), 23 A17 (out), 24 HOST LOGIC OUT (out), 25 HOST LOGIC IN (in), 26 C17 (in), 27 C16 (in), 28 C15 (in), 29 C14 (in), 30 PERI LOGIC OUT (oc), 31 VCC CABLE (power), 32 B8 (io), 33 B7 (io), 34 GND (power), 35 B6 (io), 36 B5 (io), 37 B4 (io), 38 B3 (io), 39 GND (power), 40 B2 (io), 41 B1 (io), 42 VCC CABLE (power), 43 Y13 (oc), 44 Y12 (oc), 45 Y11 (oc), 46 Y10 (oc), 47 Y9 (oc), 48 DIR (in)